# Altium footprint library test-mate.PCBLIB: 3 footprints
Each footprint in its own frame and in the unit in brackets; x right, y up, seen from the top. Pads: shape width x height; smd on the part's side, far side on the other; paste and mask are expansions set on the pad; w line width, h text height; cw(c..) or ccw(c..) is an arc to the next point about the centre after c.
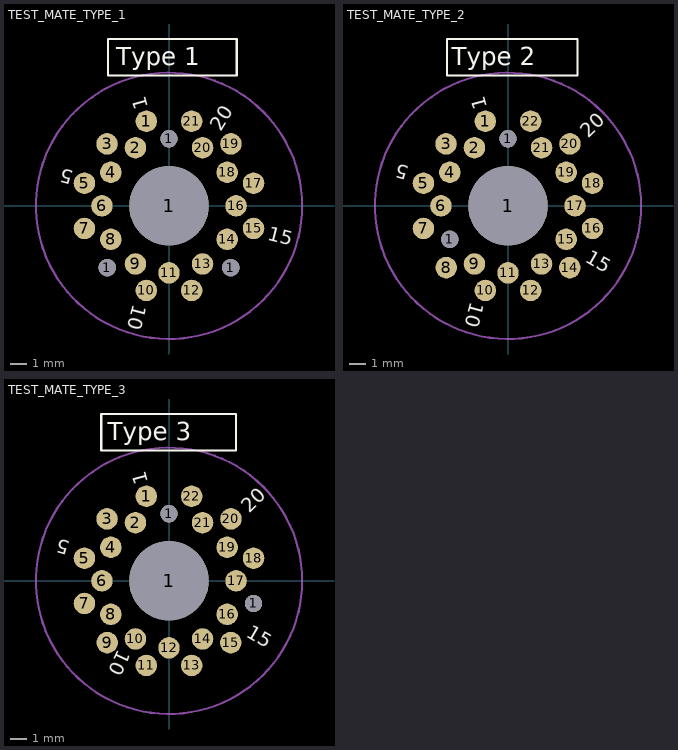
[diagram p0: the footprints below, top view; thin cyan lines are the x and y axes]

## TEST_MATE_TYPE_1 [mm]
pads (25):
  round 1.05 hole 1.05: 1(-3.74,-3.74) 1(0,4.06) 1(3.74,-3.74)
  rrect100% 1.3x1.3 smd: 1(-1.37,5.12) 2(-2.03,3.52) 3(-3.75,3.75) 4(-3.52,2.03) 5(-5.12,1.37) 6(-4.06,0) 7(-5.12,-1.37) 8(-3.52,-2.03) 9(-2.03,-3.52) 10(-1.37,-5.12) 11(0,-4.06) 12(1.37,-5.12) 13(2.03,-3.52) 14(3.52,-2.03) 15(5.12,-1.37) 16(4.06,0) 17(5.12,1.37) 18(3.52,2.03) 19(3.75,3.75) 20(2.03,3.52) 21(1.37,5.12)
  round 4.8 hole 4.8: 1(0,0)
Top Overlay:
  region: 0,0 0.254,0 0.254,0.254 0,0.254
  lines w0.127: -3.7,7.9 4.1,7.9 4.1,10.1 -3.7,10.1 -3.7,7.9
  text "1" at -1.259,5.969 h0.86
  text "5" at -5.739,2.079 h0.86
  text "15" at 5.931,-2.051 h0.86
  text "20" at 3.121,4.469 h0.86
  text "10" at -2.151,-5.929 h0.86
  text "Type 1" at -3.2,8.5 h1.08
Mechanical 27:
  circle w0.127: c0,0 r8.062

## TEST_MATE_TYPE_2 [mm]
pads (25):
  round 1.05 hole 1.05: 1(-3.52,-2.03) 1(0,4.06)
  rrect100% 1.3x1.3 smd: 1(-1.37,5.12) 2(-2.03,3.52) 3(-3.75,3.75) 4(-3.52,2.03) 5(-5.12,1.37) 6(-4.06,0) 7(-5.12,-1.37) 8(-3.74,-3.74) 9(-2.03,-3.52) 10(-1.37,-5.12) 11(0,-4.06) 12(1.37,-5.12) 13(2.03,-3.52) 14(3.74,-3.74) 15(3.52,-2.03) 16(5.12,-1.37) 17(4.06,0) 18(5.12,1.37) 19(3.52,2.03) 20(3.75,3.75) 21(2.03,3.52) 22(1.37,5.12)
  round 4.8 hole 4.8: 1(0,0)
Top Overlay:
  region: 0,0 0.254,0 0.254,0.254 0,0.254
  lines w0.127: -3.7,7.9 4.2,7.9 4.2,10.1 -3.7,10.1 -3.7,7.9
  text "1" at -1.259,5.969 h0.86
  text "5" at -5.939,2.379 h0.86
  text "15" at 4.631,-3.351 h0.86
  text "10" at -2.249,-5.771 h0.86
  text "Type 2" at -3.4,8.5 h1.08
  text "20" at 4.861,4.069 h0.86
Mechanical 27:
  circle w0.127: c0,0 r8.062

## TEST_MATE_TYPE_3 [mm]
pads (25):
  rrect100% 1.3x1.3 smd: 1(-1.37,5.12) 2(-2.03,3.52) 3(-3.75,3.75) 4(-3.52,2.03) 5(-5.12,1.37) 6(-4.06,0) 7(-5.12,-1.37) 8(-3.52,-2.03) 9(-3.74,-3.74) 10(-2.03,-3.52) 11(-1.37,-5.12) 12(0,-4.06) 13(1.37,-5.12) 14(2.03,-3.52) 15(3.74,-3.74) 16(3.52,-2.03) 17(4.06,0) 18(5.12,1.37) 19(3.52,2.03) 20(3.75,3.75) 21(2.03,3.52) 22(1.37,5.12)
  round 4.8 hole 4.8: 1(0,0)
  round 1.05 hole 1.05: 1(0,4.06) 1(5.12,-1.37)
Top Overlay:
  region: 0,0 0.254,0 0.254,0.254 0,0.254
  lines w0.127: -4.1,7.9 4.065,7.9 4.065,10.1 -4.1,10.1 -4.1,7.9
  text "1" at -1.259,5.969 h0.86
  text "5" at -5.939,2.379 h0.86
  text "15" at 4.631,-3.351 h0.86
  text "10" at -3.084,-4.101 h0.86
  text "Type 3" at -3.7,8.5 h1.08
  text "20" at 4.861,4.069 h0.86
Mechanical 27:
  circle w0.127: c0,0 r8.062